# Altium footprint library PTSAHT120624V050.PcbLib: 1 footprints
Each footprint in its own frame and in the unit in brackets; x right, y up, seen from the top. Pads: shape width x height; smd on the part's side, far side on the other; paste and mask are expansions set on the pad; w line width, h text height; cw(c..) or ccw(c..) is an arc to the next point about the centre after c.
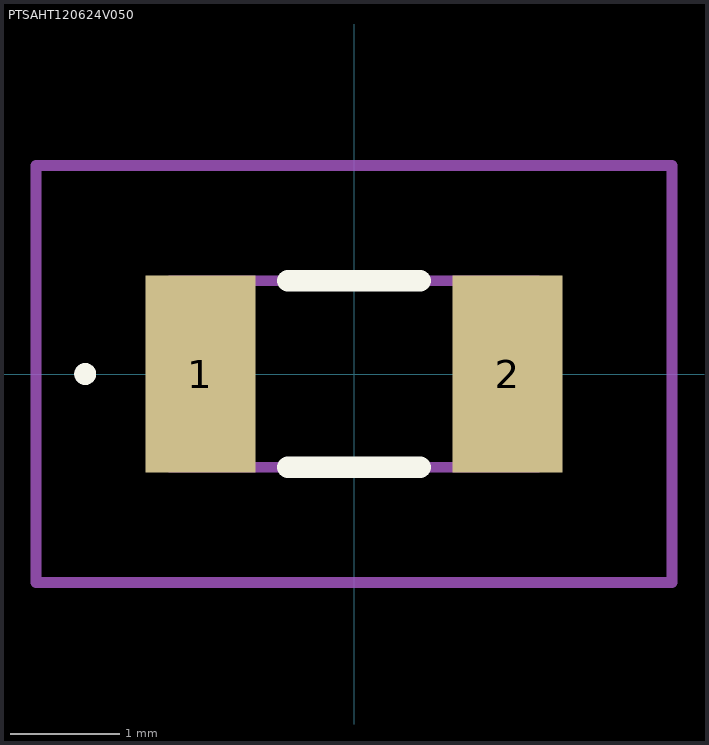
[diagram p0: the footprint, top view; thin cyan lines are the x and y axes]

## PTSAHT120624V050 [mm]
pads (2):
  rect 1x1.8 smd: 1(-1.4,0) 2(1.4,0)
Top Overlay:
  lines w0.1: -2.5,0 cw(c-2.45,0) -2.4,0 cw(c-2.45,0) -2.5,0
  lines w0.2: -0.6,-0.85 0.6,-0.85 ; -0.6,0.85 0.6,0.85
Mechanical 15:
  lines w0.1: -1.675,-0.85 -1.675,0.85 1.675,0.85 1.675,-0.85 -1.675,-0.85
Mechanical 20:
  lines w0.1: -2.9,-1.9 -2.9,1.9 2.9,1.9 2.9,-1.9 -2.9,-1.9
3D body "PTSAHT120624V050.stp": height 0.41, standoff -0.66, extent 7.941,-23.476 11.241,-21.776
3D body "PTSAHT120624V050.stp": height 0.41, standoff -0.66, extent 7.941,-23.73 11.241,-22.03
3D body "PTSAHT120624V050.stp": height 0.41, standoff -0.66, extent 8.703,-26.397 12.003,-24.697
3D body "PTSAHT120624V050.stp": height 0.41, standoff -0.66, extent 8.957,-25.381 12.257,-23.681
3D body "PTSAHT120624V050.stp": height 0.41, standoff -0.66, extent 8.195,-23.476 11.495,-21.776
3D body "PTSAHT120624V050.stp": height 0.41, standoff -0.66, extent 8.195,-23.476 11.495,-21.776